# Altium footprint library EMK325BJ476MM-P.PcbLib: 1 footprints
Each footprint in its own frame and in the unit in brackets; x right, y up, seen from the top. Pads: shape width x height; smd on the part's side, far side on the other; paste and mask are expansions set on the pad; w line width, h text height; cw(c..) or ccw(c..) is an arc to the next point about the centre after c.
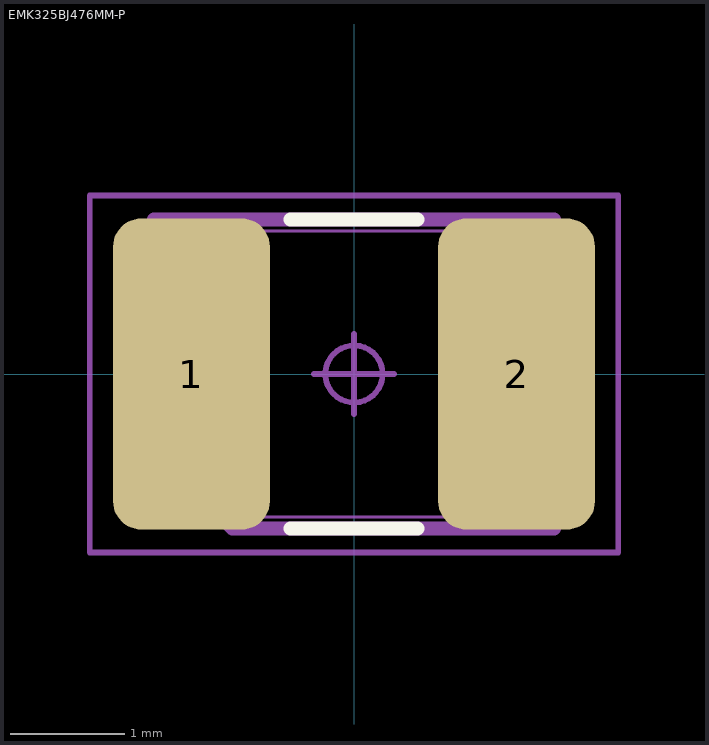
[diagram p0: the footprint, top view; thin cyan lines are the x and y axes]

## EMK325BJ476MM-P [mm] "Capacitor, Chip; 3.20 mm L X 2.50 mm W X 2.70 mm H body"
height 2.7
pads (2):
  rrect36% 1.37x2.72 smd: 1(-1.42,0) 2(1.42,0)
Top Overlay:
  lines w0.12: -0.555,-1.35 0.555,-1.35 ; -0.555,1.35 0.555,1.35
Mechanical 3:
  lines w0.12: -1.75,-0.663 -1.75,1.35 1.75,1.35 1.75,-1.35 -1.063,-1.35 -1.75,-0.663
Mechanical 5:
  lines w0.025: -1.6,-1.25 1.6,-1.25 ; -1.6,-1.25 -1.6,1.25 ; -1.6,-1.25 -1.6,1.25 ; -1.6,-1.25 -1,-1.25 -1,1.25 -1.6,1.25 ; -1.6,1.25 1.6,1.25 ; 1.6,-1.25 1.6,1.25 ; 1.6,-1.25 1,-1.25 1,1.25 1.6,1.25 ; 1.6,-1.25 1.6,1.25
Mechanical 7:
  circle w0.05: c0,0 r0.25
  lines w0.05: -0.35,0 0.35,0 ; 0,-0.35 0,0.35 ; -2.31,-1.56 2.31,-1.56 2.31,1.56 -2.31,1.56 -2.31,-1.56
Mechanical 9:
  text "'.Designator'" at -4.826,-0.635 h1
3D body: height 1.04, standoff 0, extent -2.31,-1.56 2.31,1.56